# EAGLE library part MAX30102 (library MAX30100)
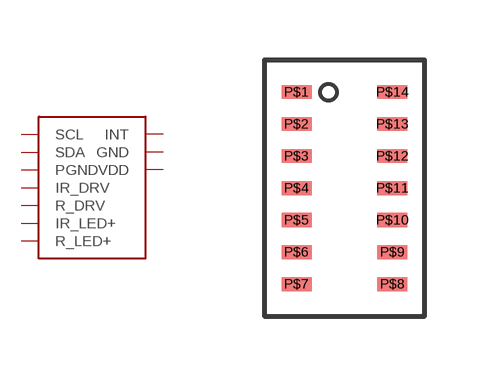
[diagram p1: symbol with the pads of MAX30102; footprint MAX30102]

Designator prefix -

## MAX30102  [MAX30102]
P$2  SCL
P$3  SDA
P$4  PGND
P$5  R_DRV
P$6  IR_DRV
P$9  R_LED+
P$10  IR_LED+
P$11  VDD
P$12  GND
P$13  INT

## Footprint MAX30102 (pad centres in mm)
smd 0.75 x 0.35: P$1 0,4.8; P$2 0,4; P$3 0,3.2; P$4 0,2.4; P$5 0,1.6; P$6 0,0.8; P$7 0,0; P$8 2.4,0; P$9 2.4,0.8; P$10 2.4,1.6; P$11 2.4,2.4; P$12 2.4,3.2; P$13 2.4,4; P$14 2.4,4.8